# Altium footprint library NR6028T4R7M.PcbLib: 1 footprints
Each footprint in its own frame and in the unit in brackets; x right, y up, seen from the top. Pads: shape width x height; smd on the part's side, far side on the other; paste and mask are expansions set on the pad; w line width, h text height; cw(c..) or ccw(c..) is an arc to the next point about the centre after c.
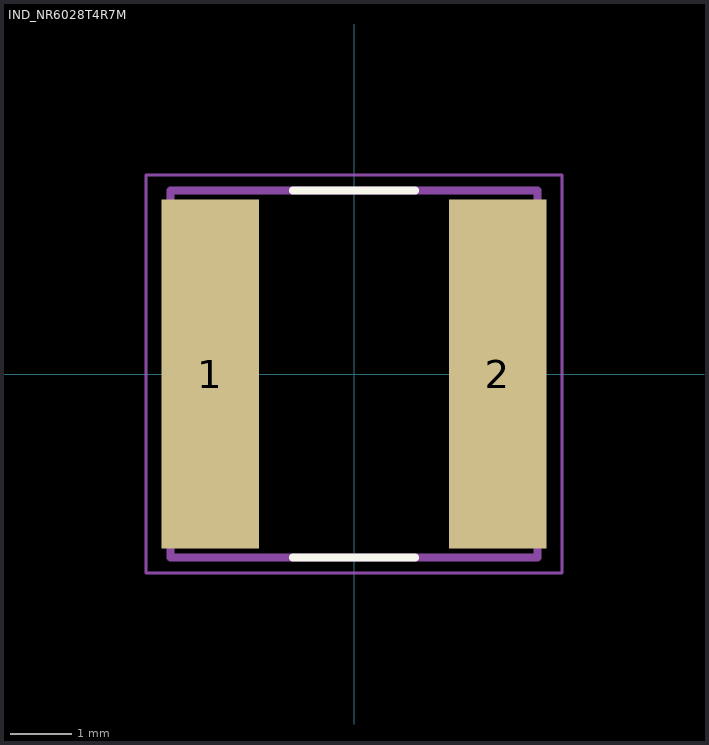
[diagram p0: the footprint, top view; thin cyan lines are the x and y axes]

## IND_NR6028T4R7M [mm]
pads (2):
  rect 1.6x5.7 smd: 1(-2.35,0) 2(2.35,0)
Top Overlay:
  lines w0.127: -1,-3 1,-3 ; -1,3 1,3
Mechanical 13:
  lines w0.127: -3,-3 3,-3 3,3 -3,3 -3,-3
Mechanical 15:
  lines w0.05: -3.4,-3.25 3.4,-3.25 3.4,3.25 -3.4,3.25 -3.4,-3.25
3D body "NR6028T4R7M--3DModel-STEP-56544.STEP": height 2.61, standoff -0.19, extent -3,-3 3,3